# Altium schematic symbol library SamacSysZW.SchLib: 8 symbols
Pins are listed as number, name and electrical type; pins without a type are passive.

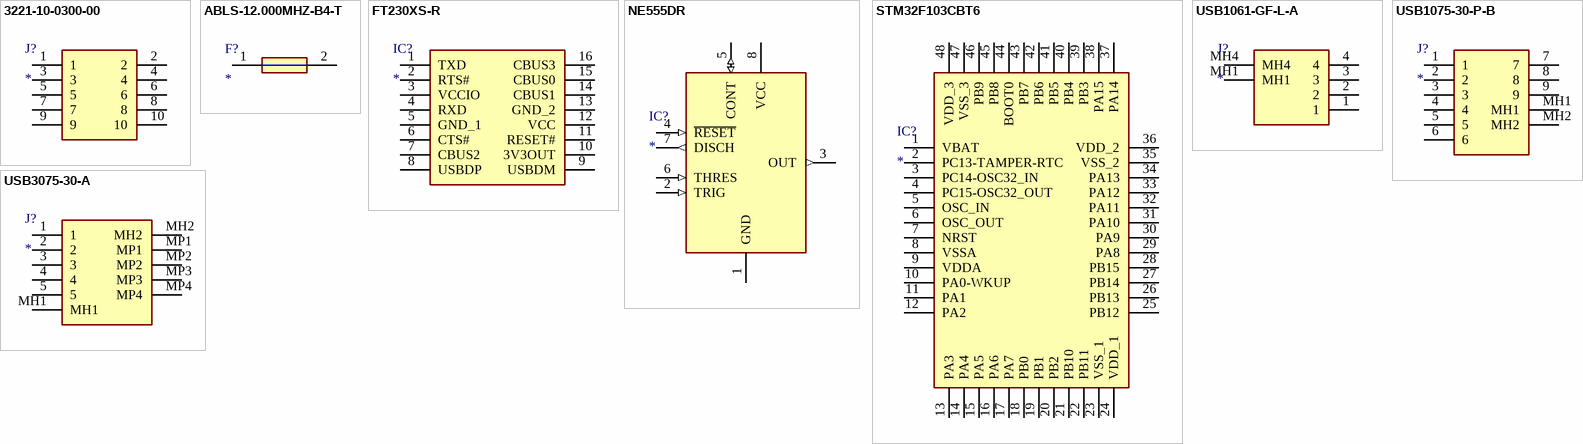
[diagram p0: symbols 3221-10-0300-00 to USB3075-30-A]

## 3221-10-0300-00
designator J?
Connector; Manufacturer_Name: CNC Tech; Manufacturer_Part_Number: 3221-10-0300-00; Datasheet Link: http://cnctech.us/pdfs/3221-XX-0300-00.pdf; Height: 5.8mm; Arrow Part Number: 3221-10-0300-00; Arrow Price/Stock: https://www.arrow.com/en/products/3221-10-0300-00/cnc-tech-llc
footprint 322110030000
pins: 1, 2, 3, 4, 5, 6, 7, 8, 9, 10

## ABLS-12.000MHZ-B4-T
designator F?
Fuse; Manufacturer_Name: ABRACON; Manufacturer_Part_Number: ABLS-12.000MHZ-B4-T; Description: ABRACON - ABLS-12.000MHZ-B4-T - CRYSTAL; Datasheet Link: https://componentsearchengine.com/Datasheets/2/ABLS-12.000MHZ-B4-T.pdf; Mouser Part Number: 815-ABLS-12.0M-T; Mouser Price/Stock: https://www.mouser.co.uk/ProductDetail/ABRACON/ABLS-12000MHZ-B4-T?qs=yTU0IcKoRlGSQ8ooxPPVnQ%3D%3D; Arrow Part Number: ABLS-12.000MHZ-B4-T; Arrow Price/Stock: https://www.arrow.com/en/products/abls-12.000mhz-b4-t/abracon?region=nac
footprint HC/49US-(AT49)_1
pins: 1, 2

## FT230XS-R
designator IC?
Integrated Circuit; Manufacturer_Name: FTDI Chip; Manufacturer_Part_Number: FT230XS-R; Datasheet Link: http://www.ftdichip.com/Support/Documents/DataSheets/ICs/DS_FT230X.pdf; Height: 1.753mm; Mouser Part Number: 895-FT230XS-R; Mouser Price/Stock: https://www.mouser.co.uk/ProductDetail/FTDI/FT230XS-R?qs=Gp1Yz1mis3XyCLeYOseSng%3D%3D; Arrow Part Number: FT230XS-R; Arrow Price/Stock: http://www.arrow.com/en/products/ft230xs-r/ftdi-chip
footprint SOP64P599X175-16N
pins: 1 TXD, 2 RTS#, 3 VCCIO, 4 RXD, 5 GND_1, 6 CTS#, 7 CBUS2, 8 USBDP, 9 USBDM, 10 3V3OUT, 11 RESET#, 12 VCC, 13 GND_2, 14 CBUS1, 15 CBUS0, 16 CBUS3

## NE555DR
designator IC?
Integrated Circuit; Manufacturer_Name: Texas Instruments; Manufacturer_Part_Number: NE555DR; Datasheet Link: http://www.ti.com/lit/ds/symlink/ne555.pdf; Height: 1.75mm; Mouser Part Number: 595-NE555DR; Mouser Price/Stock: https://www.mouser.com/Search/Refine.aspx?Keyword=595-NE555DR; RS Part Number: 1218414; RS Price/Stock: http://uk.rs-online.com/web/p/products/1218414
footprint SOIC127P600X175-8N
pins: 1 GND (power), 2 TRIG (in), 3 OUT (out), 4 ~{RESET} (in), 5 CONT (io), 6 THRES (in), 7 DISCH (out), 8 VCC (power)

## STM32F103CBT6
designator IC?
Integrated Circuit; Manufacturer_Name: STMicroelectronics; Manufacturer_Part_Number: STM32F103CBT6; Datasheet Link: http://www.st.com/st-web-ui/static/active/en/resource/technical/document/datasheet/CD00161566.pdf; Height: 1.6mm; Mouser Part Number: 511-STM32F103CBT6; Mouser Price/Stock: https://www.mouser.co.uk/ProductDetail/STMicroelectronics/STM32F103CBT6?qs=WxFF5lh7QM3goh6GV5Ogig%3D%3D; Arrow Part Number: STM32F103CBT6; Arrow Price/Stock: https://www.arrow.com/en/products/stm32f103cbt6/stmicroelectronics
footprint QFP50P900X900X160-48N
pins: 1 VBAT, 2 PC13-TAMPER-RTC, 3 PC14-OSC32_IN, 4 PC15-OSC32_OUT, 5 OSC_IN, 6 OSC_OUT, 7 NRST, 8 VSSA, 9 VDDA, 10 PA0-WKUP, 11 PA1, 12 PA2, 13 PA3, 14 PA4, 15 PA5, 16 PA6, 17 PA7, 18 PB0, 19 PB1, 20 PB2, 21 PB10, 22 PB11, 23 VSS_1, 24 VDD_1, 25 PB12, 26 PB13, 27 PB14, 28 PB15, 29 PA8, 30 PA9, 31 PA10, 32 PA11, 33 PA12, 34 PA13, 35 VSS_2, 36 VDD_2, 37 PA14, 38 PA15, 39 PB3, 40 PB4, 41 PB5, 42 PB6, 43 PB7, 44 BOOT0, 45 PB8, 46 PB9, 47 VSS_3, 48 VDD_3

## USB1061-GF-L-A
designator J?
Connector; Manufacturer_Name: GCT (GLOBAL CONNECTOR TECHNOLOGY); Manufacturer_Part_Number: USB1061-GF-L-A; Datasheet Link: https://gct.co/connector/usb1061; Height: 4.6mm; Mouser Part Number: 640-USB1061-GF-L-A; Mouser Price/Stock: https://www.mouser.co.uk/ProductDetail/GCT/USB1061-GF-L-A?qs=KUoIvG%2F9IlYSthVIrIBVzQ%3D%3D
footprint USB1061GFLA
pins: 1, 2, 3, 4, MH1, MH4

## USB1075-30-P-B
designator J?
Connector; Manufacturer_Name: GCT (GLOBAL CONNECTOR TECHNOLOGY); Manufacturer_Part_Number: USB1075-30-P-B; Datasheet Link: https://componentsearchengine.com/Datasheets/2/USB1075-30-P-B.pdf; Height: 7.24mm; Mouser Part Number: 640-USB1075-30-P-B; Mouser Price/Stock: https://www.mouser.co.uk/ProductDetail/GCT/USB1075-30-P-B?qs=KUoIvG%2F9IlZYzf7vNUF1qQ%3D%3D
footprint USB107530PB
pins: 1, 2, 3, 4, 5, 6, 7, 8, 9, MH1, MH2

## USB3075-30-A
designator J?
Connector; Manufacturer_Name: GCT (GLOBAL CONNECTOR TECHNOLOGY); Manufacturer_Part_Number: USB3075-30-A; Datasheet Link: https://componentsearchengine.com/Datasheets/2/USB3075-30-A.pdf; Height: 2.7mm; Mouser Part Number: 640-USB3075-30-A; Mouser Price/Stock: https://www.mouser.co.uk/ProductDetail/GCT/USB3075-30-A?qs=KUoIvG%2F9IlbGMJplbp1ybA%3D%3D
footprint USB307530A
pins: 1, 2, 3, 4, 5, MH1, MH2, MP1, MP2, MP3, MP4